# EAGLE library part I2C-LEVELSHIFTER (library SPCoast)
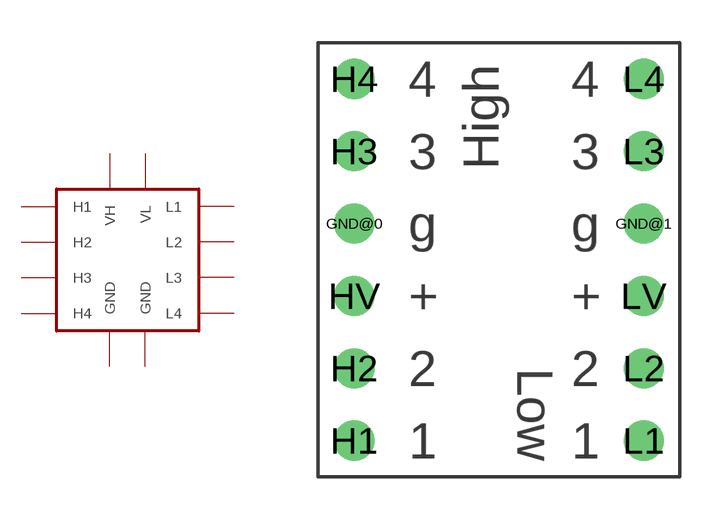
[diagram p47: symbol with the pads of MODULE; footprint MODULE]

Designator prefix LS

## I2C-LEVELSHIFTER  [MODULE]
GND@0  GND
GND@1  GND
H1  H1
H2  H2
H3  H3
H4  H4
HV  VH
L1  L1
L2  L2
L3  L3
L4  L4
LV  VL

## Footprint MODULE (pad centres in mm)
Similar to https://www.ebay.com/itm/10pcs-4-Channel-IIC-I2C-5V-to-3-3V-Logic-Level-Converter-Bi-Directional-Module/361909027585
drill 0.9: GND@0 -5.08,1.27; GND@1 5.08,1.27; H1 -5.08,-6.35; H2 -5.08,-3.81; H3 -5.08,3.81; H4 -5.08,6.35; HV -5.08,-1.27; L1 5.08,-6.35; L2 5.08,-3.81; L3 5.08,3.81; L4 5.08,6.35; LV 5.08,-1.27